# EAGLE library part STM32F767ZIT6 (library mcu)
STMICROELECTRONICS - STM32F767ZIT6 - MCU, 32BIT, CORTEX-M7, 216MHZ, LQFP-144 Source: Datasheet <http://www.farnell.com/datasheets/2034586.pdf>
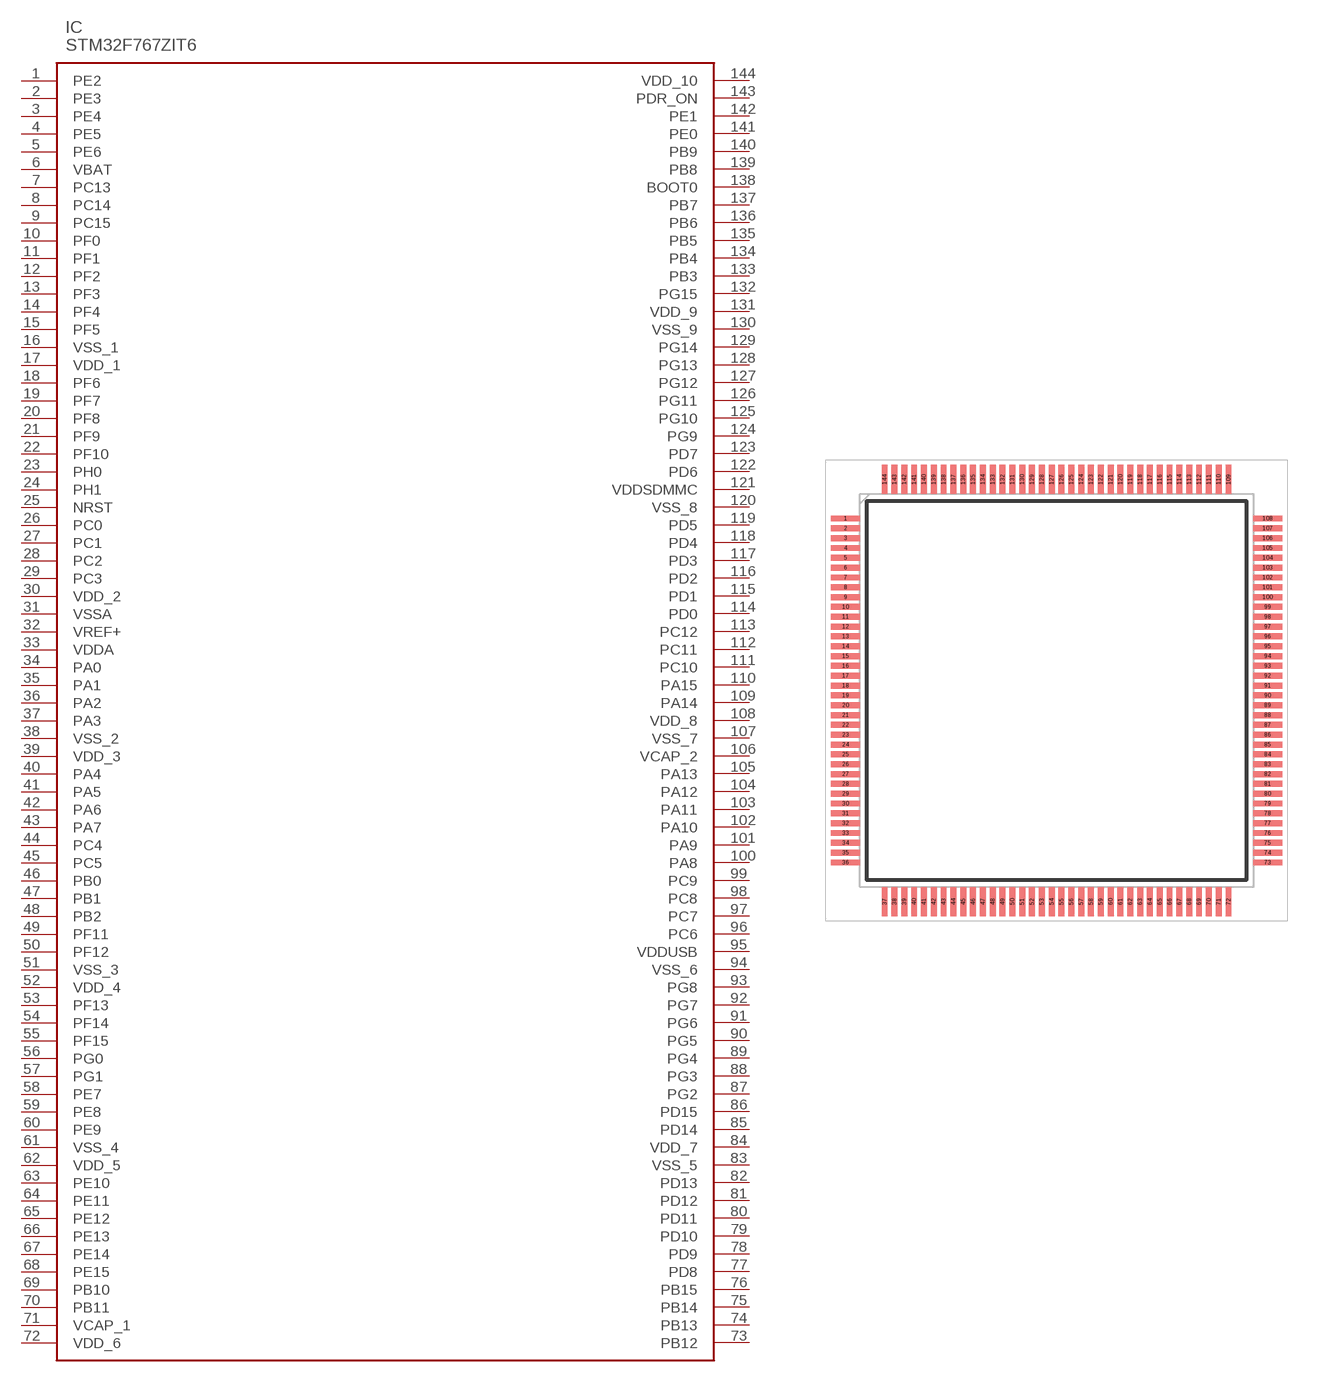
[diagram p0: symbol with the pads of QFP50P2200X2200X160-144N; footprint QFP50P2200X2200X160-144N]

Designator prefix IC

## STM32F767ZIT6 (DESCRIPTION: STMICROELECTRONICS - STM32F767ZIT6 - MCU, 32BIT, CORTEX-M7, 216MHZ, LQFP-144; HEIGHT: 1.6mm; MANUFACTURER_NAME: STMicroelectronics; MANUFACTURER_PART_NUMBER: STM32F767ZIT6; MOUSER_PART_NUMBER: 511-STM32F767ZIT6; MOUSER_PRICE-STOCK: https://www.mouser.com/Search/Refine.aspx?Keyword=511-STM32F767ZIT6; RS_PART_NUMBER: 1116470P; RS_PRICE-STOCK: http://uk.rs-online.com/web/p/products/1116470P)  [QFP50P2200X2200X160-144N]
1  PE2
2  PE3
3  PE4
4  PE5
5  PE6
6  VBAT
7  PC13
8  PC14
9  PC15
10  PF0
11  PF1
12  PF2
13  PF3
14  PF4
15  PF5
16  VSS_1
17  VDD_1
18  PF6
19  PF7
20  PF8
21  PF9
22  PF10
23  PH0
24  PH1
25  NRST
26  PC0
27  PC1
28  PC2
29  PC3
30  VDD_2
31  VSSA
32  VREF+
33  VDDA
34  PA0
35  PA1
36  PA2
37  PA3
38  VSS_2
39  VDD_3
40  PA4
41  PA5
42  PA6
43  PA7
44  PC4
45  PC5
46  PB0
47  PB1
48  PB2
49  PF11
50  PF12
51  VSS_3
52  VDD_4
53  PF13
54  PF14
55  PF15
56  PG0
57  PG1
58  PE7
59  PE8
60  PE9
61  VSS_4
62  VDD_5
63  PE10
64  PE11
65  PE12
66  PE13
67  PE14
68  PE15
69  PB10
70  PB11
71  VCAP_1
72  VDD_6
73  PB12
74  PB13
75  PB14
76  PB15
77  PD8
78  PD9
79  PD10
80  PD11
81  PD12
82  PD13
83  VSS_5
84  VDD_7
85  PD14
86  PD15
87  PG2
88  PG3
89  PG4
90  PG5
91  PG6
92  PG7
93  PG8
94  VSS_6
95  VDDUSB
96  PC6
97  PC7
98  PC8
99  PC9
100  PA8
101  PA9
102  PA10
103  PA11
104  PA12
105  PA13
106  VCAP_2
107  VSS_7
108  VDD_8
109  PA14
110  PA15
111  PC10
112  PC11
113  PC12
114  PD0
115  PD1
116  PD2
117  PD3
118  PD4
119  PD5
120  VSS_8
121  VDDSDMMC
122  PD6
123  PD7
124  PG9
125  PG10
126  PG11
127  PG12
128  PG13
129  PG14
130  VSS_9
131  VDD_9
132  PG15
133  PB3
134  PB4
135  PB5
136  PB6
137  PB7
138  BOOT0
139  PB8
140  PB9
141  PE0
142  PE1
143  PDR_ON
144  VDD_10

## Footprint QFP50P2200X2200X160-144N (pad centres in mm)
LQFP144.20x20mm,144-pin-low-profile-QFP
smd 1.475 x 0.3: 1 -10.738,8.75; 2 -10.738,8.25; 3 -10.738,7.75; 4 -10.738,7.25; 5 -10.738,6.75; 6 -10.738,6.25; 7 -10.738,5.75; 8 -10.738,5.25; 9 -10.738,4.75; 10 -10.738,4.25; 11 -10.738,3.75; 12 -10.738,3.25; 13 -10.738,2.75; 14 -10.738,2.25; 15 -10.738,1.75; 16 -10.738,1.25; 17 -10.738,0.75; 18 -10.738,0.25; 19 -10.738,-0.25; 20 -10.738,-0.75; 21 -10.738,-1.25; 22 -10.738,-1.75; 23 -10.738,-2.25; 24 -10.738,-2.75; 25 -10.738,-3.25; 26 -10.738,-3.75; 27 -10.738,-4.25; 28 -10.738,-4.75; 29 -10.738,-5.25; 30 -10.738,-5.75; 31 -10.738,-6.25; 32 -10.738,-6.75; 33 -10.738,-7.25; 34 -10.738,-7.75; 35 -10.738,-8.25; 36 -10.738,-8.75; 73 10.738,-8.75; 74 10.738,-8.25; 75 10.738,-7.75; 76 10.738,-7.25; 77 10.738,-6.75; 78 10.738,-6.25; 79 10.738,-5.75; 80 10.738,-5.25; 81 10.738,-4.75; 82 10.738,-4.25; 83 10.738,-3.75; 84 10.738,-3.25; 85 10.738,-2.75; 86 10.738,-2.25; 87 10.738,-1.75; 88 10.738,-1.25; 89 10.738,-0.75; 90 10.738,-0.25; 91 10.738,0.25; 92 10.738,0.75; 93 10.738,1.25; 94 10.738,1.75; 95 10.738,2.25; 96 10.738,2.75; 97 10.738,3.25; 98 10.738,3.75; 99 10.738,4.25; 100 10.738,4.75; 101 10.738,5.25; 102 10.738,5.75; 103 10.738,6.25; 104 10.738,6.75; 105 10.738,7.25; 106 10.738,7.75; 107 10.738,8.25; 108 10.738,8.75
smd 0.3 x 1.475: 37 -8.75,-10.738; 38 -8.25,-10.738; 39 -7.75,-10.738; 40 -7.25,-10.738; 41 -6.75,-10.738; 42 -6.25,-10.738; 43 -5.75,-10.738; 44 -5.25,-10.738; 45 -4.75,-10.738; 46 -4.25,-10.738; 47 -3.75,-10.738; 48 -3.25,-10.738; 49 -2.75,-10.738; 50 -2.25,-10.738; 51 -1.75,-10.738; 52 -1.25,-10.738; 53 -0.75,-10.738; 54 -0.25,-10.738; 55 0.25,-10.738; 56 0.75,-10.738; 57 1.25,-10.738; 58 1.75,-10.738; 59 2.25,-10.738; 60 2.75,-10.738; 61 3.25,-10.738; 62 3.75,-10.738; 63 4.25,-10.738; 64 4.75,-10.738; 65 5.25,-10.738; 66 5.75,-10.738; 67 6.25,-10.738; 68 6.75,-10.738; 69 7.25,-10.738; 70 7.75,-10.738; 71 8.25,-10.738; 72 8.75,-10.738; 109 8.75,10.738; 110 8.25,10.738; 111 7.75,10.738; 112 7.25,10.738; 113 6.75,10.738; 114 6.25,10.738; 115 5.75,10.738; 116 5.25,10.738; 117 4.75,10.738; 118 4.25,10.738; 119 3.75,10.738; 120 3.25,10.738; 121 2.75,10.738; 122 2.25,10.738; 123 1.75,10.738; 124 1.25,10.738; 125 0.75,10.738; 126 0.25,10.738; 127 -0.25,10.738; 128 -0.75,10.738; 129 -1.25,10.738; 130 -1.75,10.738; 131 -2.25,10.738; 132 -2.75,10.738; 133 -3.25,10.738; 134 -3.75,10.738; 135 -4.25,10.738; 136 -4.75,10.738; 137 -5.25,10.738; 138 -5.75,10.738; 139 -6.25,10.738; 140 -6.75,10.738; 141 -7.25,10.738; 142 -7.75,10.738; 143 -8.25,10.738; 144 -8.75,10.738